# EAGLE library part DM3AT-SF-PEJM5 (library DAWA-MAIN-7.0)
CONN MICRO SD R/A PUSH-PUSH SMD
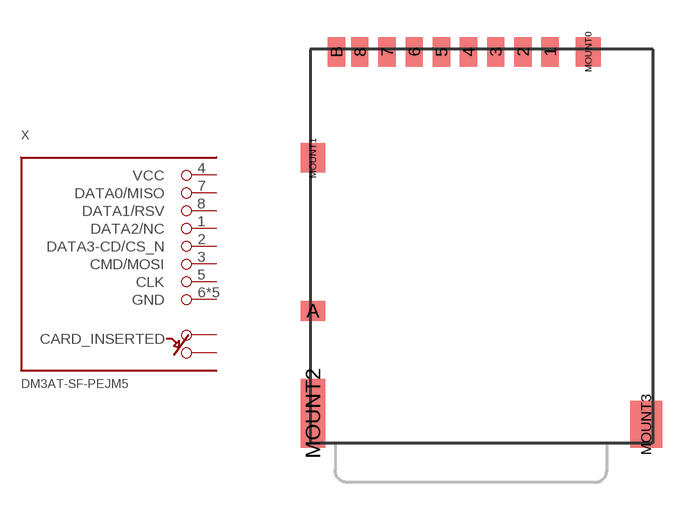
[diagram p4: symbol with the pads of DM3AT-SF-PEJM5; footprint DM3AT-SF-PEJM5]

Designator prefix X

## DM3AT-SF-PEJM5 (MPN: DM3AT-SF-PEJM5; URL_ALIEXPRESS: https://fr.aliexpress.com/item/32239137511.html)  [DM3AT-SF-PEJM5]
1  DATA2/NC
2  DATA3-CD/CS_N
3  CMD/MOSI
4  VCC
5  CLK
6  GND
7  DATA0/MISO
8  DATA1/RSV
A  A
B  B
MOUNT0  GND
MOUNT1  GND
MOUNT2  GND
MOUNT3  GND

## Footprint DM3AT-SF-PEJM5 (pad centres in mm)
Micro SD card holder with push-to-eject feature.
smd 0.7 x 1.2: 1 3.2,-0.1; 2 2.1,-0.1; 3 1,-0.1; 4 -0.1,-0.1; 5 -1.2,-0.1; 6 -2.3,-0.1; 7 -3.4,-0.1; 8 -4.5,-0.1; B -5.45,-0.1
smd 1 x 0.8: A -6.4,-10.6
smd 1 x 1.2: MOUNT0 4.75,-0.1; MOUNT1 -6.4,-4.4
smd 1 x 2.8: MOUNT2 -6.4,-14.75
smd 1.3 x 1.9: MOUNT3 7.1,-15.2